# Altium footprint library VFDFN-10 (3x3).PcbLib: 1 footprints
Each footprint in its own frame and in the unit in brackets; x right, y up, seen from the top. Pads: shape width x height; smd on the part's side, far side on the other; paste and mask are expansions set on the pad; w line width, h text height; cw(c..) or ccw(c..) is an arc to the next point about the centre after c.
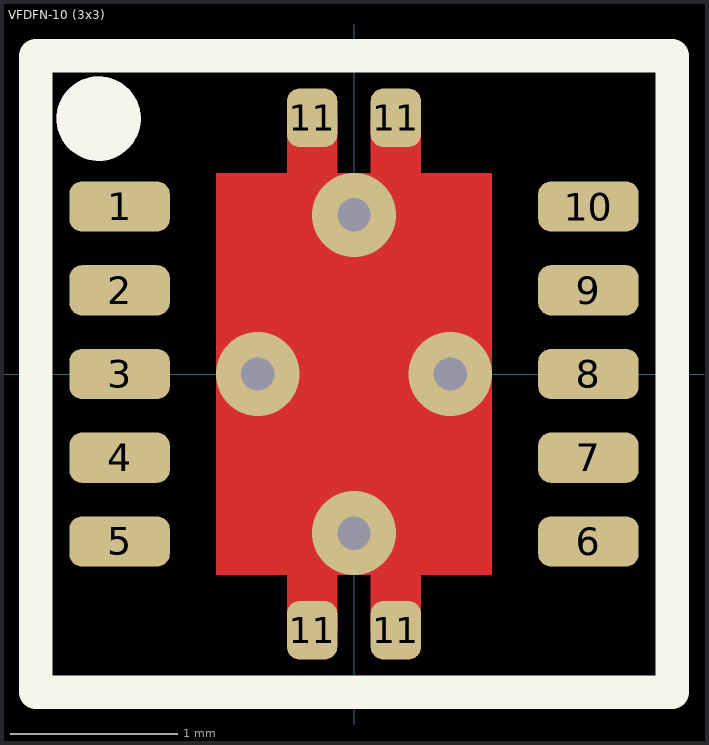
[diagram p0: the footprint, top view; thin cyan lines are the x and y axes]

## VFDFN-10 (3x3) [mm]
pads (14):
  rrect50% 0.6x0.3 smd mask+0.05: 1(-1.4,1) 2(-1.4,0.5) 3(-1.4,0) 4(-1.4,-0.5) 5(-1.4,-1) 6(1.4,-1) 7(1.4,-0.5) 8(1.4,0) 9(1.4,0.5) 10(1.4,1)
  rrect50% 0.3x0.35 smd mask+0.05: 11(-0.25,-1.53) 11(-0.25,1.53) 11(0.25,-1.53) 11(0.25,1.53)
via 0,0.95 diameter 0.5 hole 0.2
via 0,-0.95 diameter 0.5 hole 0.2
via 0.575,0 diameter 0.5 hole 0.2
via -0.575,0 diameter 0.5 hole 0.2
Top Layer:
  region: 0.4,1.53 0.1,1.53 0.1,1.15 0.4,1.15
  region: -0.1,1.53 -0.4,1.53 -0.4,1.15 -0.1,1.15
  rectangle: 0.1,-1.53 0.4,-1.15
  rectangle: -0.4,-1.53 -0.1,-1.15
  rectangle: -0.825,-1.2 0.825,1.2
Top Overlay:
  circle w0.254: c-1.525,1.525 r0.125
  lines w0.2: -1.9,-1.9 1.9,-1.9 1.9,1.9 -1.9,1.9 -1.9,-1.9
Top Paste:
  region: 0.75,0.1 -0.75,0.1 -0.75,1.16 0.75,1.16
  region: -0.75,-0.1 0.75,-0.1 0.75,-1.16 -0.75,-1.16
Top Solder:
  region: 0.45,1.6 0.05,1.6 0.05,1.2 0.45,1.2
  region: -0.05,1.6 -0.45,1.6 -0.45,1.2 -0.05,1.2
  rectangle: 0.05,-1.6 0.45,-1.2
  rectangle: -0.45,-1.6 -0.05,-1.2
  rectangle: -0.875,-1.25 0.875,1.25
Top Assembly:
  circle w0.254: c-1.525,1.525 r0.125
  lines w0.1: -1.9,-1.9 -1.9,1.9 1.9,1.9 1.9,-1.9 -1.9,-1.9
  text "'.Designator'" at 0,0 h0.7
3D body "TPS51200DRCR.stp": height 1.1, standoff 0, extent -1.5,-1.5 1.5,1.5